# Altium schematic symbol library Schlib_Texas_Instruments.SchLib: 17 symbols
Pins are listed as number, name and electrical type; pins without a type are passive.

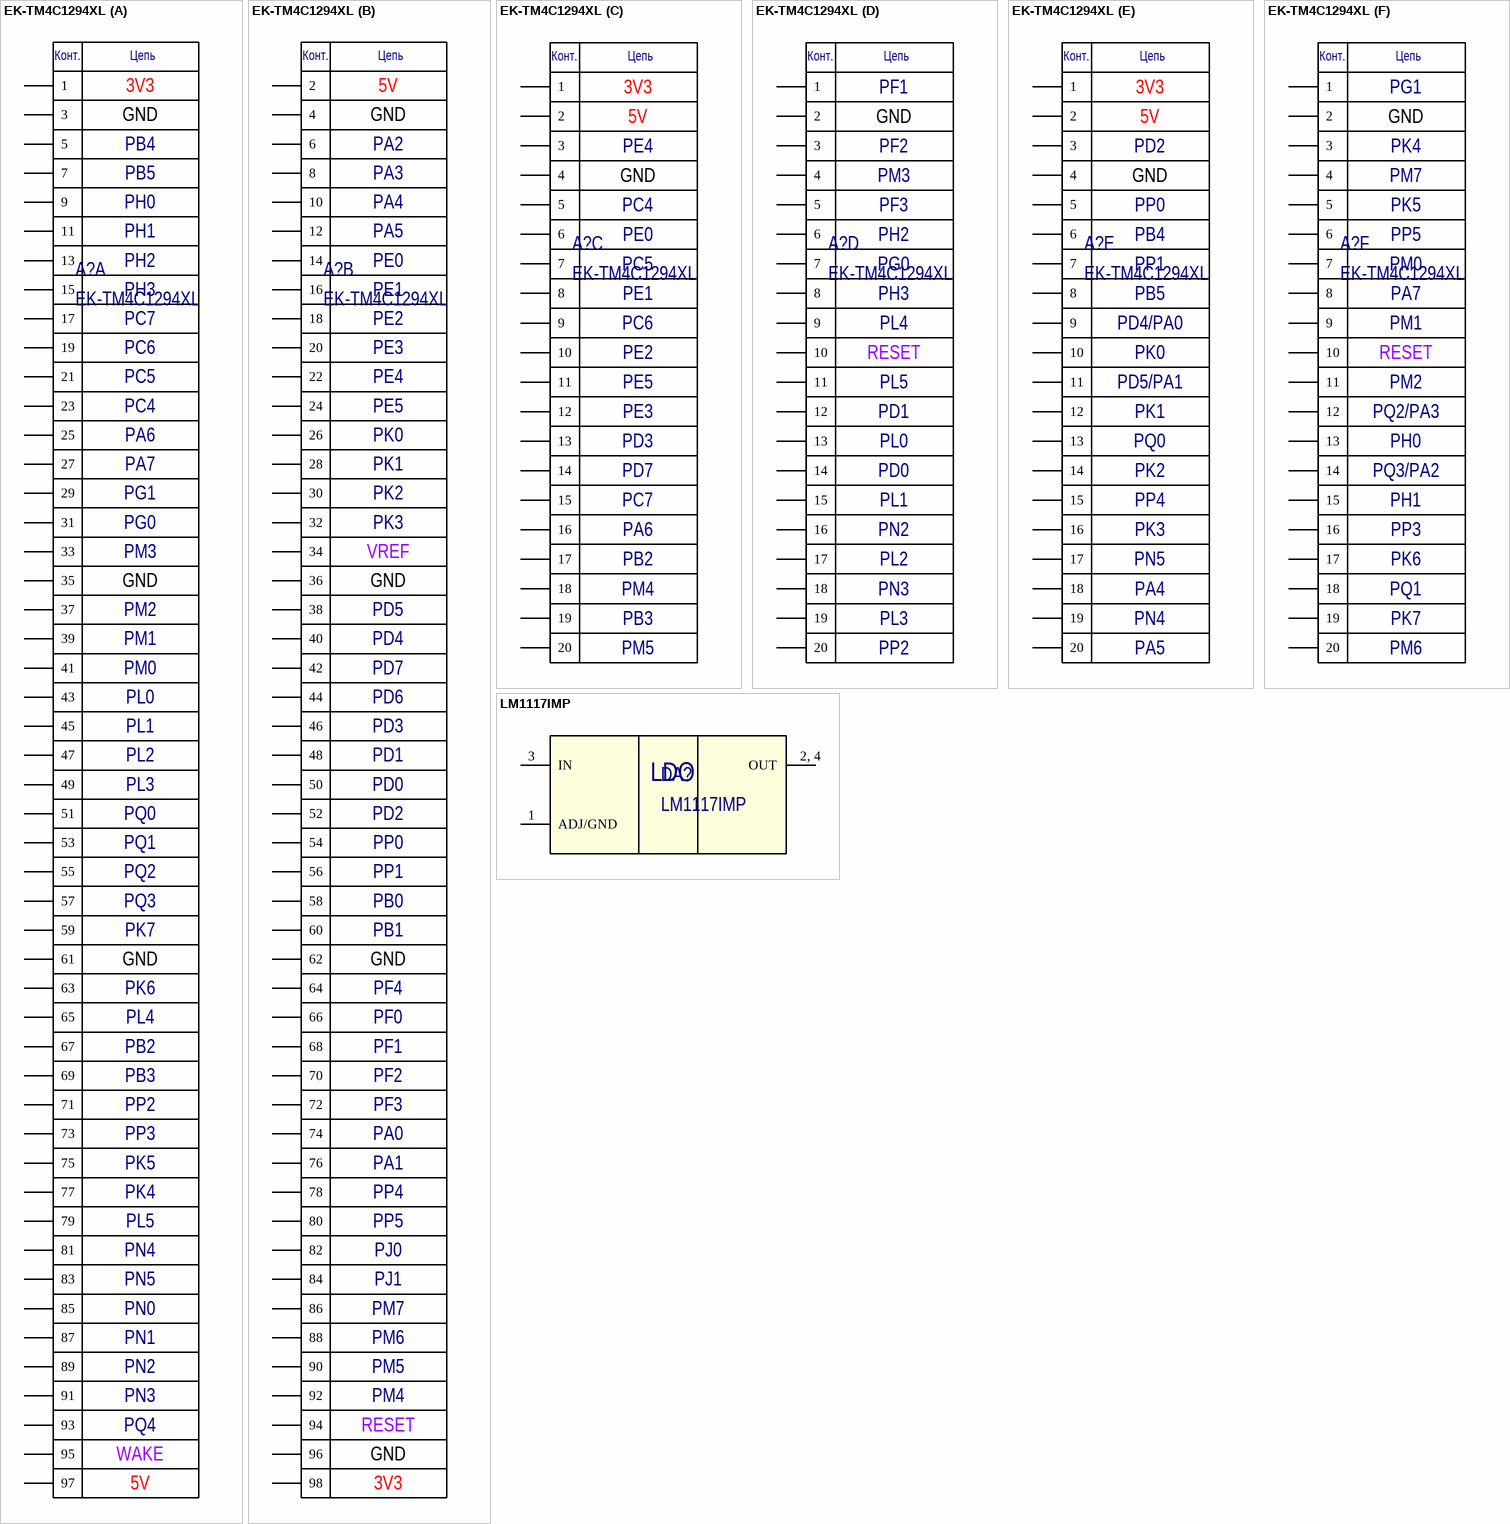
[diagram p0: symbols EK-TM4C1294XL to LM1117IMP]

## EK-TM4C1294XL
designator A?
Tiva™ C Series TM4C1294 Connected LaunchPad Evaluation Kit; Manufacturer: Texas Instruments; Part Number: EK-TM4C1294XL
part A pins: 1 (power), 3 (power), 5, 7, 9, 11, 13, 15, 17, 19, 21, 23, 25, 27, 29, 31, 33, 35 (power), 37, 39, 41, 43, 45, 47, 49, 51, 53, 55, 57, 59, 61 (power), 63, 65, 67, 69, 71, 73, 75, 77, 79, 81, 83, 85, 87, 89, 91, 93, 95, 97 (power)
part B pins: 2 (power), 4 (power), 6, 8, 10, 12, 14, 16, 18, 20, 22, 24, 26, 28, 30, 32, 34, 36 (power), 38, 40, 42, 44, 46, 48, 50, 52, 54, 56, 58, 60, 62 (power), 64, 66, 68, 70, 72, 74, 76, 78, 80, 82, 84, 86, 88, 90, 92, 94, 96 (power), 98 (power)
part C pins: 1 (power), 2 (power), 3, 4 (power), 5, 6, 7, 8, 9, 10, 11, 12, 13, 14, 15, 16, 17, 18, 19, 20
part D pins: 1, 2 (power), 3, 4, 5, 6, 7, 8, 9, 10, 11, 12, 13, 14, 15, 16, 17, 18, 19, 20
part E pins: 1 (power), 2 (power), 3, 4 (power), 5, 6, 7, 8, 9, 10, 11, 12, 13, 14, 15, 16, 17, 18, 19, 20
part F pins: 1, 2, 3, 4, 5, 6, 7, 8, 9, 10, 11, 12, 13, 14, 15, 16, 17, 18, 19, 20
part A text: Конт.; Цепь; 3V3; GND; PB4; PB5; PH0; PH1; PH2; PH3; PC7; PC6; PC5; PC4; PA6; PA7; PG1; PG0; PM3; PM2; PM1; PM0; PL0; PL1; PL2; PL3; PQ0; PQ1; PQ2; PQ3; PK7; PK6; PL4; PB2; PB3; PP2; PP3; PK5; PK4; PL5; PN4; PN5; PN0; PN1; PN2; PN3; PQ4; WAKE; 5V
part B text: Конт.; Цепь; 5V; GND; PA2; PA3; PA4; PA5; PE0; PE1; PE2; PE3; PE4; PE5; PK0; PK1; PK2; PK3; VREF; PD5; PD4; PD7; PD6; PD3; PD1; PD0; PD2; PP0; PP1; PB0; PB1; PF4; PF0; PF1; PF2; PF3; PA0; PA1; PP4; PP5; PJ0; PJ1; PM7; PM6; PM5; PM4; RESET; 3V3
part C text: Конт.; Цепь; 3V3; 5V; PE4; GND; PC4; PE0; PC5; PE1; PC6; PE2; PE5; PE3; PD3; PD7; PC7; PA6; PB2; PM4; PB3; PM5
part D text: Конт.; Цепь; PF1; GND; PF2; PM3; PF3; PH2; PG0; PH3; PL4; RESET; PL5; PD1; PL0; PD0; PL1; PN2; PL2; PN3; PL3; PP2
part E text: Конт.; Цепь; 3V3; 5V; PD2; GND; PP0; PB4; PP1; PB5; PD4/PA0; PK0; PD5/PA1; PK1; PQ0; PK2; PP4; PK3; PN5; PA4; PN4; PA5
part F text: Конт.; Цепь; PG1; GND; PK4; PM7; PK5; PP5; PM0; PA7; PM1; RESET; PM2; PQ2/PA3; PH0; PQ3/PA2; PH1; PP3; PK6; PQ1; PK7; PM6

## LM1117IMP
designator DA?
LDO; Manufacturer: Texas Instruments; Part Number: LM1117IMP
footprint SOT223-4 (SOT223, 4-Leads, Body 6.50x7.00mm (avg), Pitch 2.30mm, IPC Medium Density)
pins: 1 ADJ/GND (power), 2, 4 OUT (power), 3 IN (power)

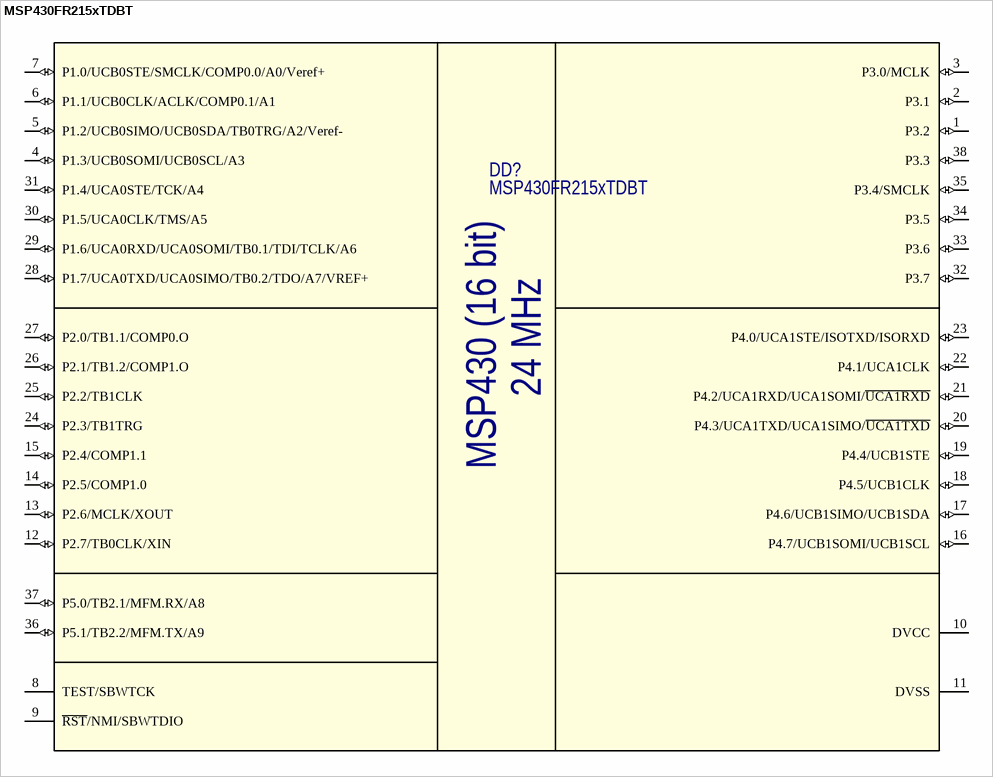
[diagram p1: symbol MSP430FR215xTDBT]

## MSP430FR215xTDBT
designator DD?
MCU 16-bit RISC architecture; Manufacturer: Texas Instruments; Part Number: MSP430FR215xTDBT
footprint TSSOP-38 (TSSOP, 38-Leads, Pitch 0.5mm, IPC Medium Density)
pins: 1 P3.2 (io), 2 P3.1 (io), 3 P3.0/MCLK (io), 4 P1.3/UCB0SOMI/UCB0SCL/A3 (io), 5 P1.2/UCB0SIMO/UCB0SDA/TB0TRG/A2/Veref- (io), 6 P1.1/UCB0CLK/ACLK/COMP0.1/A1 (io), 7 P1.0/UCB0STE/SMCLK/COMP0.0/A0/Veref+ (io), 8 TEST/SBWTCK, 9 ~{RST}/NMI/SBWTDIO, 10 DVCC (power), 11 DVSS (power), 12 P2.7/TB0CLK/XIN (io), 13 P2.6/MCLK/XOUT (io), 14 P2.5/COMP1.0 (io), 15 P2.4/COMP1.1 (io), 16 P4.7/UCB1SOMI/UCB1SCL (io), 17 P4.6/UCB1SIMO/UCB1SDA (io), 18 P4.5/UCB1CLK (io), 19 P4.4/UCB1STE (io), 20 P4.3/UCA1TXD/UCA1SIMO/~{UCA1TXD} (io), 21 P4.2/UCA1RXD/UCA1SOMI/~{UCA1RXD} (io), 22 P4.1/UCA1CLK (io), 23 P4.0/UCA1STE/ISOTXD/ISORXD (io), 24 P2.3/TB1TRG (io), 25 P2.2/TB1CLK (io), 26 P2.1/TB1.2/COMP1.O (io), 27 P2.0/TB1.1/COMP0.O (io), 28 P1.7/UCA0TXD/UCA0SIMO/TB0.2/TDO/A7/VREF+ (io), 29 P1.6/UCA0RXD/UCA0SOMI/TB0.1/TDI/TCLK/A6 (io), 30 P1.5/UCA0CLK/TMS/A5 (io), 31 P1.4/UCA0STE/TCK/A4 (io), 32 P3.7 (io), 33 P3.6 (io), 34 P3.5 (io), 35 P3.4/SMCLK (io), 36 P5.1/TB2.2/MFM.TX/A9 (io), 37 P5.0/TB2.1/MFM.RX/A8 (io), 38 P3.3 (io)
text: 24 MHz; MSP430 (16 bit)

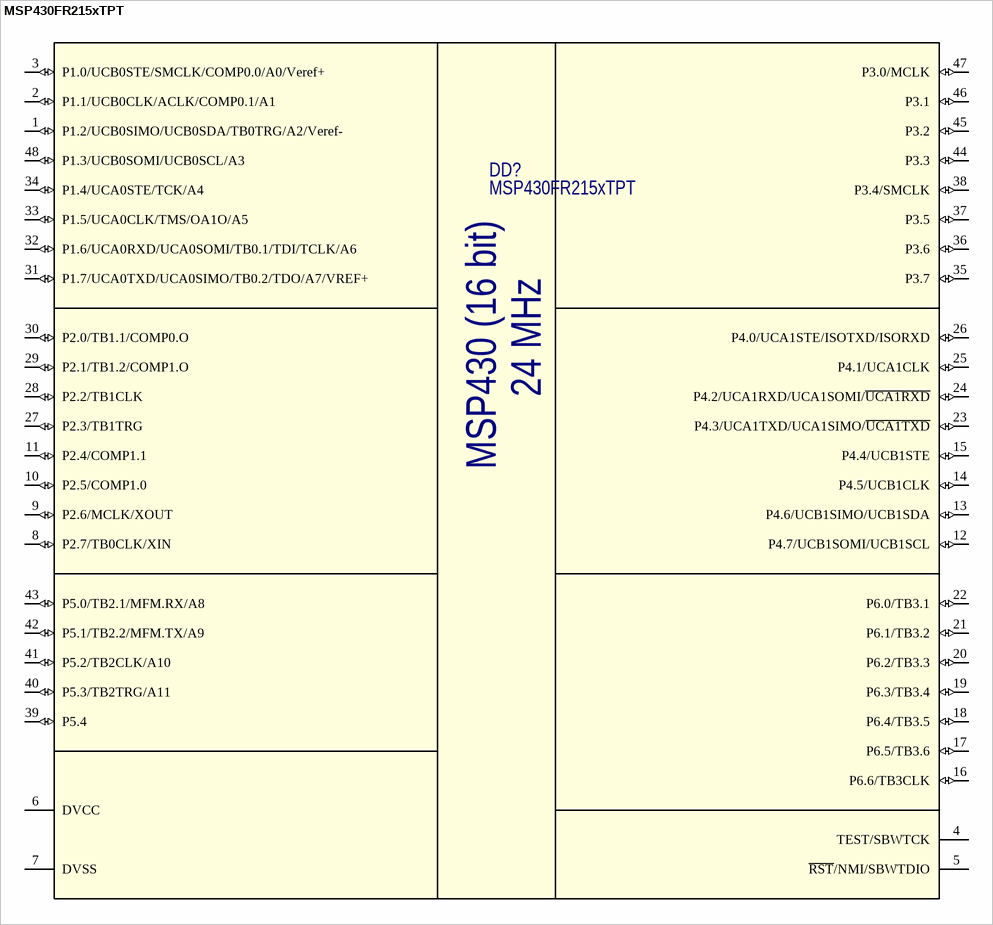
[diagram p2: symbol MSP430FR215xTPT]

## MSP430FR215xTPT
designator DD?
MCU 16-bit RISC architecture; Manufacturer: Texas Instruments; Part Number: MSP430FR215xTPT
footprint LQFP-48 (TSQFP, 48-Leads, Body 7,00x7,00mm, Pitch 0,50mm, IPC Medium Density)
pins: 1 P1.2/UCB0SIMO/UCB0SDA/TB0TRG/A2/Veref- (io), 2 P1.1/UCB0CLK/ACLK/COMP0.1/A1 (io), 3 P1.0/UCB0STE/SMCLK/COMP0.0/A0/Veref+ (io), 4 TEST/SBWTCK, 5 ~{RST}/NMI/SBWTDIO, 6 DVCC (power), 7 DVSS (power), 8 P2.7/TB0CLK/XIN (io), 9 P2.6/MCLK/XOUT (io), 10 P2.5/COMP1.0 (io), 11 P2.4/COMP1.1 (io), 12 P4.7/UCB1SOMI/UCB1SCL (io), 13 P4.6/UCB1SIMO/UCB1SDA (io), 14 P4.5/UCB1CLK (io), 15 P4.4/UCB1STE (io), 16 P6.6/TB3CLK (io), 17 P6.5/TB3.6 (io), 18 P6.4/TB3.5 (io), 19 P6.3/TB3.4 (io), 20 P6.2/TB3.3 (io), 21 P6.1/TB3.2 (io), 22 P6.0/TB3.1 (io), 23 P4.3/UCA1TXD/UCA1SIMO/~{UCA1TXD} (io), 24 P4.2/UCA1RXD/UCA1SOMI/~{UCA1RXD} (io), 25 P4.1/UCA1CLK (io), 26 P4.0/UCA1STE/ISOTXD/ISORXD (io), 27 P2.3/TB1TRG (io), 28 P2.2/TB1CLK (io), 29 P2.1/TB1.2/COMP1.O (io), 30 P2.0/TB1.1/COMP0.O (io), 31 P1.7/UCA0TXD/UCA0SIMO/TB0.2/TDO/A7/VREF+ (io), 32 P1.6/UCA0RXD/UCA0SOMI/TB0.1/TDI/TCLK/A6 (io), 33 P1.5/UCA0CLK/TMS/OA1O/A5 (io), 34 P1.4/UCA0STE/TCK/A4 (io), 35 P3.7 (io), 36 P3.6 (io), 37 P3.5 (io), 38 P3.4/SMCLK (io), 39 P5.4 (io), 40 P5.3/TB2TRG/A11 (io), 41 P5.2/TB2CLK/A10 (io), 42 P5.1/TB2.2/MFM.TX/A9 (io), 43 P5.0/TB2.1/MFM.RX/A8 (io), 44 P3.3 (io), 45 P3.2 (io), 46 P3.1 (io), 47 P3.0/MCLK (io), 48 P1.3/UCB0SOMI/UCB0SCL/A3 (io)
text: 24 MHz; MSP430 (16 bit)

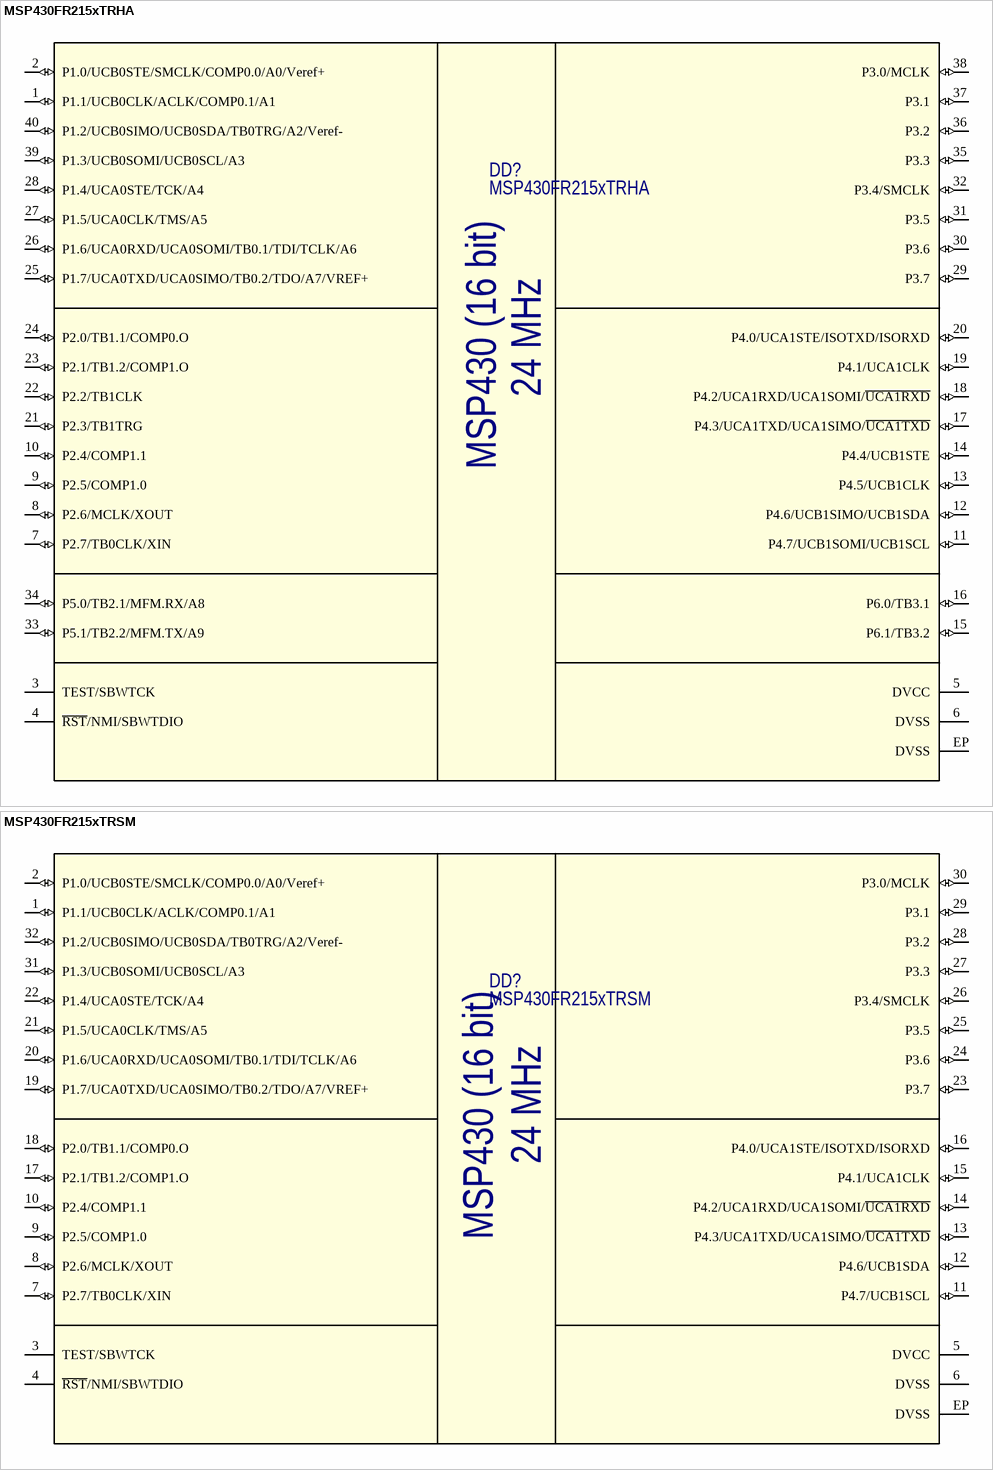
[diagram p3: symbols MSP430FR215xTRHA to MSP430FR215xTRSM]

## MSP430FR215xTRHA
designator DD?
MCU 16-bit RISC architecture; Manufacturer: Texas Instruments; Part Number: MSP430FR215xTRHA
footprint PVQFN40
pins: 1 P1.1/UCB0CLK/ACLK/COMP0.1/A1 (io), 2 P1.0/UCB0STE/SMCLK/COMP0.0/A0/Veref+ (io), 3 TEST/SBWTCK, 4 ~{RST}/NMI/SBWTDIO, 5 DVCC (power), 6 DVSS (power), 7 P2.7/TB0CLK/XIN (io), 8 P2.6/MCLK/XOUT (io), 9 P2.5/COMP1.0 (io), 10 P2.4/COMP1.1 (io), 11 P4.7/UCB1SOMI/UCB1SCL (io), 12 P4.6/UCB1SIMO/UCB1SDA (io), 13 P4.5/UCB1CLK (io), 14 P4.4/UCB1STE (io), 15 P6.1/TB3.2 (io), 16 P6.0/TB3.1 (io), 17 P4.3/UCA1TXD/UCA1SIMO/~{UCA1TXD} (io), 18 P4.2/UCA1RXD/UCA1SOMI/~{UCA1RXD} (io), 19 P4.1/UCA1CLK (io), 20 P4.0/UCA1STE/ISOTXD/ISORXD (io), 21 P2.3/TB1TRG (io), 22 P2.2/TB1CLK (io), 23 P2.1/TB1.2/COMP1.O (io), 24 P2.0/TB1.1/COMP0.O (io), 25 P1.7/UCA0TXD/UCA0SIMO/TB0.2/TDO/A7/VREF+ (io), 26 P1.6/UCA0RXD/UCA0SOMI/TB0.1/TDI/TCLK/A6 (io), 27 P1.5/UCA0CLK/TMS/A5 (io), 28 P1.4/UCA0STE/TCK/A4 (io), 29 P3.7 (io), 30 P3.6 (io), 31 P3.5 (io), 32 P3.4/SMCLK (io), 33 P5.1/TB2.2/MFM.TX/A9 (io), 34 P5.0/TB2.1/MFM.RX/A8 (io), 35 P3.3 (io), 36 P3.2 (io), 37 P3.1 (io), 38 P3.0/MCLK (io), 39 P1.3/UCB0SOMI/UCB0SCL/A3 (io), 40 P1.2/UCB0SIMO/UCB0SDA/TB0TRG/A2/Veref- (io), EP DVSS (power)
text: 24 MHz; MSP430 (16 bit)

## MSP430FR215xTRSM
designator DD?
MCU 16-bit RISC architecture; Manufacturer: Texas Instruments; Part Number: MSP430FR215xTRSM
footprint QFN32-0.4 (QFN, 32-Leads, Body 4,00x4,00mm, Pitch 0,40mm, Thermal Pad 2,80x2,80mm, IPC Medium Density)
pins: 1 P1.1/UCB0CLK/ACLK/COMP0.1/A1 (io), 2 P1.0/UCB0STE/SMCLK/COMP0.0/A0/Veref+ (io), 3 TEST/SBWTCK, 4 ~{RST}/NMI/SBWTDIO, 5 DVCC (power), 6 DVSS (power), 7 P2.7/TB0CLK/XIN (io), 8 P2.6/MCLK/XOUT (io), 9 P2.5/COMP1.0 (io), 10 P2.4/COMP1.1 (io), 11 P4.7/UCB1SCL (io), 12 P4.6/UCB1SDA (io), 13 P4.3/UCA1TXD/UCA1SIMO/~{UCA1TXD} (io), 14 P4.2/UCA1RXD/UCA1SOMI/~{UCA1RXD} (io), 15 P4.1/UCA1CLK (io), 16 P4.0/UCA1STE/ISOTXD/ISORXD (io), 17 P2.1/TB1.2/COMP1.O (io), 18 P2.0/TB1.1/COMP0.O (io), 19 P1.7/UCA0TXD/UCA0SIMO/TB0.2/TDO/A7/VREF+ (io), 20 P1.6/UCA0RXD/UCA0SOMI/TB0.1/TDI/TCLK/A6 (io), 21 P1.5/UCA0CLK/TMS/A5 (io), 22 P1.4/UCA0STE/TCK/A4 (io), 23 P3.7 (io), 24 P3.6 (io), 25 P3.5 (io), 26 P3.4/SMCLK (io), 27 P3.3 (io), 28 P3.2 (io), 29 P3.1 (io), 30 P3.0/MCLK (io), 31 P1.3/UCB0SOMI/UCB0SCL/A3 (io), 32 P1.2/UCB0SIMO/UCB0SDA/TB0TRG/A2/Veref- (io), EP DVSS (power)
text: 24 MHz; MSP430 (16 bit)

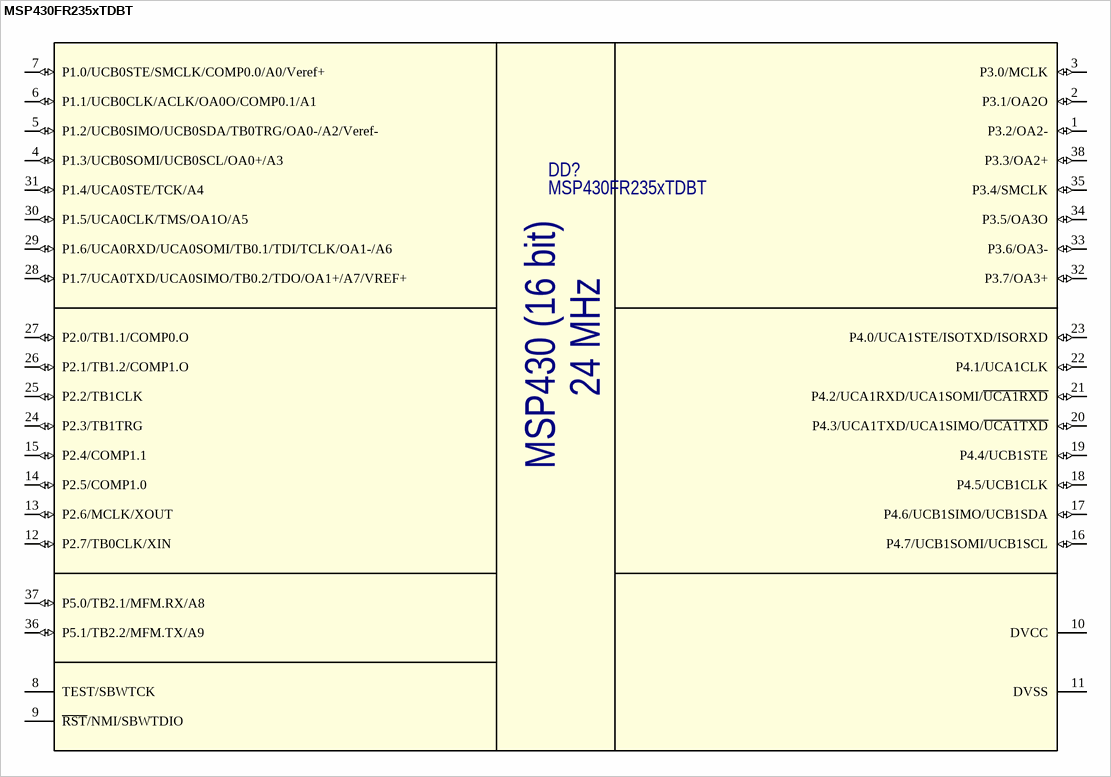
[diagram p4: symbol MSP430FR235xTDBT]

## MSP430FR235xTDBT
designator DD?
MCU 16-bit RISC architecture; Manufacturer: Texas Instruments; Part Number: MSP430FR235xTDBT
footprint TSSOP-38 (TSSOP, 38-Leads, Pitch 0.5mm, IPC Medium Density)
pins: 1 P3.2/OA2- (io), 2 P3.1/OA2O (io), 3 P3.0/MCLK (io), 4 P1.3/UCB0SOMI/UCB0SCL/OA0+/A3 (io), 5 P1.2/UCB0SIMO/UCB0SDA/TB0TRG/OA0-/A2/Veref- (io), 6 P1.1/UCB0CLK/ACLK/OA0O/COMP0.1/A1 (io), 7 P1.0/UCB0STE/SMCLK/COMP0.0/A0/Veref+ (io), 8 TEST/SBWTCK, 9 ~{RST}/NMI/SBWTDIO, 10 DVCC (power), 11 DVSS (power), 12 P2.7/TB0CLK/XIN (io), 13 P2.6/MCLK/XOUT (io), 14 P2.5/COMP1.0 (io), 15 P2.4/COMP1.1 (io), 16 P4.7/UCB1SOMI/UCB1SCL (io), 17 P4.6/UCB1SIMO/UCB1SDA (io), 18 P4.5/UCB1CLK (io), 19 P4.4/UCB1STE (io), 20 P4.3/UCA1TXD/UCA1SIMO/~{UCA1TXD} (io), 21 P4.2/UCA1RXD/UCA1SOMI/~{UCA1RXD} (io), 22 P4.1/UCA1CLK (io), 23 P4.0/UCA1STE/ISOTXD/ISORXD (io), 24 P2.3/TB1TRG (io), 25 P2.2/TB1CLK (io), 26 P2.1/TB1.2/COMP1.O (io), 27 P2.0/TB1.1/COMP0.O (io), 28 P1.7/UCA0TXD/UCA0SIMO/TB0.2/TDO/OA1+/A7/VREF+ (io), 29 P1.6/UCA0RXD/UCA0SOMI/TB0.1/TDI/TCLK/OA1-/A6 (io), 30 P1.5/UCA0CLK/TMS/OA1O/A5 (io), 31 P1.4/UCA0STE/TCK/A4 (io), 32 P3.7/OA3+ (io), 33 P3.6/OA3- (io), 34 P3.5/OA3O (io), 35 P3.4/SMCLK (io), 36 P5.1/TB2.2/MFM.TX/A9 (io), 37 P5.0/TB2.1/MFM.RX/A8 (io), 38 P3.3/OA2+ (io)
text: 24 MHz; MSP430 (16 bit)

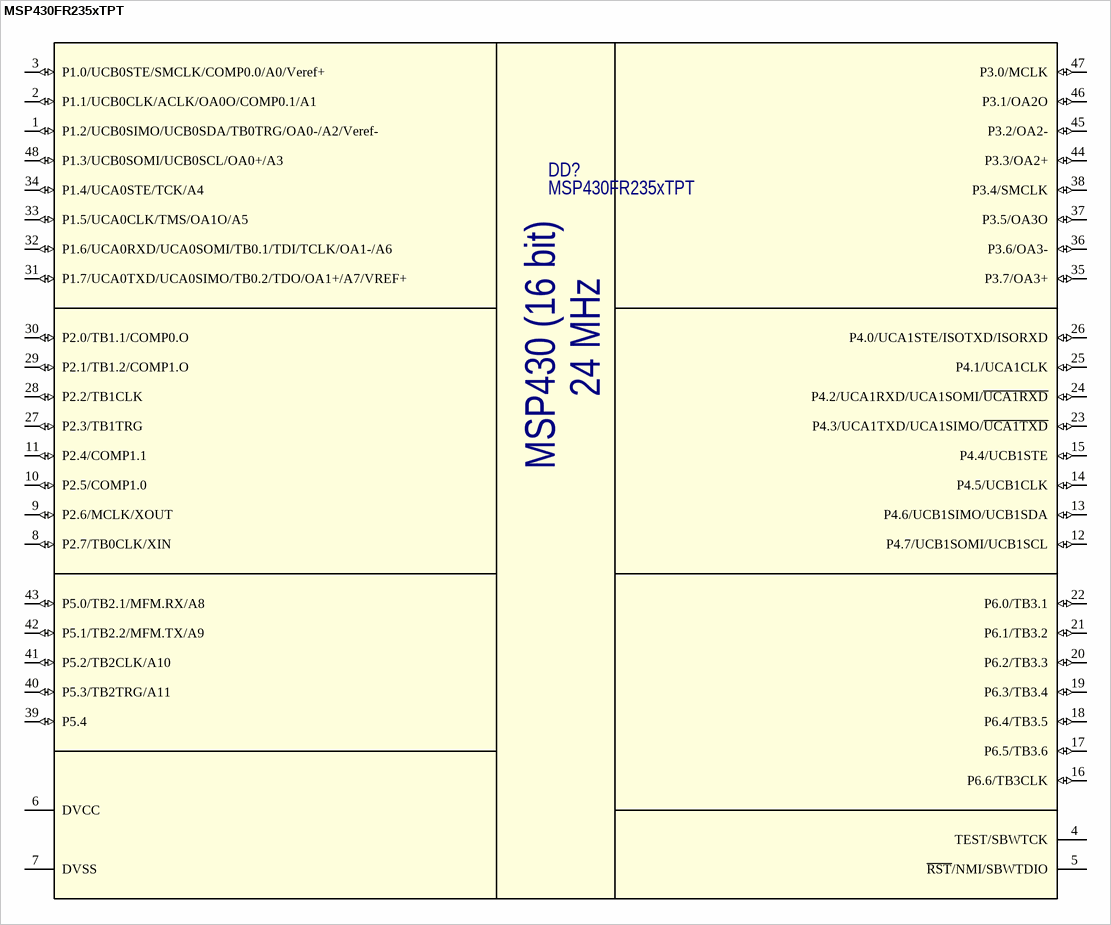
[diagram p5: symbol MSP430FR235xTPT]

## MSP430FR235xTPT
designator DD?
MCU 16-bit RISC architecture; Manufacturer: Texas Instruments; Part Number: MSP430FR235xTPT
footprint LQFP-48 (TSQFP, 48-Leads, Body 7,00x7,00mm, Pitch 0,50mm, IPC Medium Density)
pins: 1 P1.2/UCB0SIMO/UCB0SDA/TB0TRG/OA0-/A2/Veref- (io), 2 P1.1/UCB0CLK/ACLK/OA0O/COMP0.1/A1 (io), 3 P1.0/UCB0STE/SMCLK/COMP0.0/A0/Veref+ (io), 4 TEST/SBWTCK, 5 ~{RST}/NMI/SBWTDIO, 6 DVCC (power), 7 DVSS (power), 8 P2.7/TB0CLK/XIN (io), 9 P2.6/MCLK/XOUT (io), 10 P2.5/COMP1.0 (io), 11 P2.4/COMP1.1 (io), 12 P4.7/UCB1SOMI/UCB1SCL (io), 13 P4.6/UCB1SIMO/UCB1SDA (io), 14 P4.5/UCB1CLK (io), 15 P4.4/UCB1STE (io), 16 P6.6/TB3CLK (io), 17 P6.5/TB3.6 (io), 18 P6.4/TB3.5 (io), 19 P6.3/TB3.4 (io), 20 P6.2/TB3.3 (io), 21 P6.1/TB3.2 (io), 22 P6.0/TB3.1 (io), 23 P4.3/UCA1TXD/UCA1SIMO/~{UCA1TXD} (io), 24 P4.2/UCA1RXD/UCA1SOMI/~{UCA1RXD} (io), 25 P4.1/UCA1CLK (io), 26 P4.0/UCA1STE/ISOTXD/ISORXD (io), 27 P2.3/TB1TRG (io), 28 P2.2/TB1CLK (io), 29 P2.1/TB1.2/COMP1.O (io), 30 P2.0/TB1.1/COMP0.O (io), 31 P1.7/UCA0TXD/UCA0SIMO/TB0.2/TDO/OA1+/A7/VREF+ (io), 32 P1.6/UCA0RXD/UCA0SOMI/TB0.1/TDI/TCLK/OA1-/A6 (io), 33 P1.5/UCA0CLK/TMS/OA1O/A5 (io), 34 P1.4/UCA0STE/TCK/A4 (io), 35 P3.7/OA3+ (io), 36 P3.6/OA3- (io), 37 P3.5/OA3O (io), 38 P3.4/SMCLK (io), 39 P5.4 (io), 40 P5.3/TB2TRG/A11 (io), 41 P5.2/TB2CLK/A10 (io), 42 P5.1/TB2.2/MFM.TX/A9 (io), 43 P5.0/TB2.1/MFM.RX/A8 (io), 44 P3.3/OA2+ (io), 45 P3.2/OA2- (io), 46 P3.1/OA2O (io), 47 P3.0/MCLK (io), 48 P1.3/UCB0SOMI/UCB0SCL/OA0+/A3 (io)
text: 24 MHz; MSP430 (16 bit)

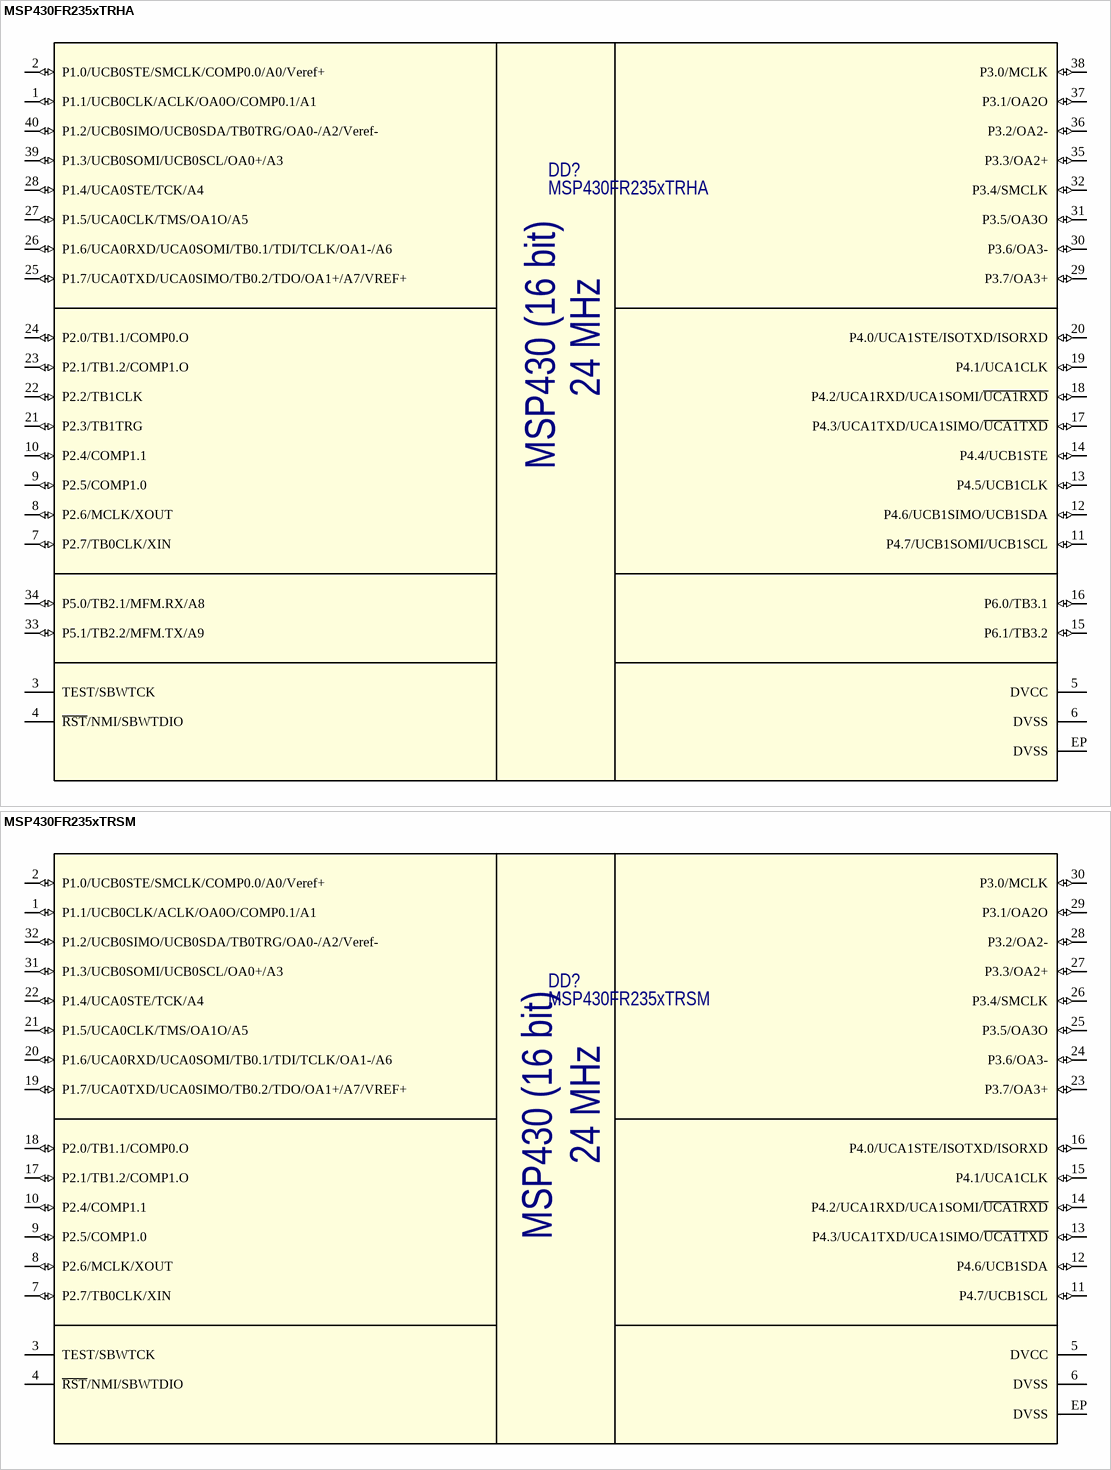
[diagram p6: symbols MSP430FR235xTRHA to MSP430FR235xTRSM]

## MSP430FR235xTRHA
designator DD?
MCU 16-bit RISC architecture; Manufacturer: Texas Instruments; Part Number: MSP430FR235xTRHA
footprint PVQFN40
pins: 1 P1.1/UCB0CLK/ACLK/OA0O/COMP0.1/A1 (io), 2 P1.0/UCB0STE/SMCLK/COMP0.0/A0/Veref+ (io), 3 TEST/SBWTCK, 4 ~{RST}/NMI/SBWTDIO, 5 DVCC (power), 6 DVSS (power), 7 P2.7/TB0CLK/XIN (io), 8 P2.6/MCLK/XOUT (io), 9 P2.5/COMP1.0 (io), 10 P2.4/COMP1.1 (io), 11 P4.7/UCB1SOMI/UCB1SCL (io), 12 P4.6/UCB1SIMO/UCB1SDA (io), 13 P4.5/UCB1CLK (io), 14 P4.4/UCB1STE (io), 15 P6.1/TB3.2 (io), 16 P6.0/TB3.1 (io), 17 P4.3/UCA1TXD/UCA1SIMO/~{UCA1TXD} (io), 18 P4.2/UCA1RXD/UCA1SOMI/~{UCA1RXD} (io), 19 P4.1/UCA1CLK (io), 20 P4.0/UCA1STE/ISOTXD/ISORXD (io), 21 P2.3/TB1TRG (io), 22 P2.2/TB1CLK (io), 23 P2.1/TB1.2/COMP1.O (io), 24 P2.0/TB1.1/COMP0.O (io), 25 P1.7/UCA0TXD/UCA0SIMO/TB0.2/TDO/OA1+/A7/VREF+ (io), 26 P1.6/UCA0RXD/UCA0SOMI/TB0.1/TDI/TCLK/OA1-/A6 (io), 27 P1.5/UCA0CLK/TMS/OA1O/A5 (io), 28 P1.4/UCA0STE/TCK/A4 (io), 29 P3.7/OA3+ (io), 30 P3.6/OA3- (io), 31 P3.5/OA3O (io), 32 P3.4/SMCLK (io), 33 P5.1/TB2.2/MFM.TX/A9 (io), 34 P5.0/TB2.1/MFM.RX/A8 (io), 35 P3.3/OA2+ (io), 36 P3.2/OA2- (io), 37 P3.1/OA2O (io), 38 P3.0/MCLK (io), 39 P1.3/UCB0SOMI/UCB0SCL/OA0+/A3 (io), 40 P1.2/UCB0SIMO/UCB0SDA/TB0TRG/OA0-/A2/Veref- (io), EP DVSS (power)
text: 24 MHz; MSP430 (16 bit)

## MSP430FR235xTRSM
designator DD?
MCU 16-bit RISC architecture; Manufacturer: Texas Instruments; Part Number: MSP430FR235xTRSM
footprint QFN32-0.4 (QFN, 32-Leads, Body 4,00x4,00mm, Pitch 0,40mm, Thermal Pad 2,80x2,80mm, IPC Medium Density)
pins: 1 P1.1/UCB0CLK/ACLK/OA0O/COMP0.1/A1 (io), 2 P1.0/UCB0STE/SMCLK/COMP0.0/A0/Veref+ (io), 3 TEST/SBWTCK, 4 ~{RST}/NMI/SBWTDIO, 5 DVCC (power), 6 DVSS (power), 7 P2.7/TB0CLK/XIN (io), 8 P2.6/MCLK/XOUT (io), 9 P2.5/COMP1.0 (io), 10 P2.4/COMP1.1 (io), 11 P4.7/UCB1SCL (io), 12 P4.6/UCB1SDA (io), 13 P4.3/UCA1TXD/UCA1SIMO/~{UCA1TXD} (io), 14 P4.2/UCA1RXD/UCA1SOMI/~{UCA1RXD} (io), 15 P4.1/UCA1CLK (io), 16 P4.0/UCA1STE/ISOTXD/ISORXD (io), 17 P2.1/TB1.2/COMP1.O (io), 18 P2.0/TB1.1/COMP0.O (io), 19 P1.7/UCA0TXD/UCA0SIMO/TB0.2/TDO/OA1+/A7/VREF+ (io), 20 P1.6/UCA0RXD/UCA0SOMI/TB0.1/TDI/TCLK/OA1-/A6 (io), 21 P1.5/UCA0CLK/TMS/OA1O/A5 (io), 22 P1.4/UCA0STE/TCK/A4 (io), 23 P3.7/OA3+ (io), 24 P3.6/OA3- (io), 25 P3.5/OA3O (io), 26 P3.4/SMCLK (io), 27 P3.3/OA2+ (io), 28 P3.2/OA2- (io), 29 P3.1/OA2O (io), 30 P3.0/MCLK (io), 31 P1.3/UCB0SOMI/UCB0SCL/OA0+/A3 (io), 32 P1.2/UCB0SIMO/UCB0SDA/TB0TRG/OA0-/A2/Veref- (io), EP DVSS (power)
text: 24 MHz; MSP430 (16 bit)

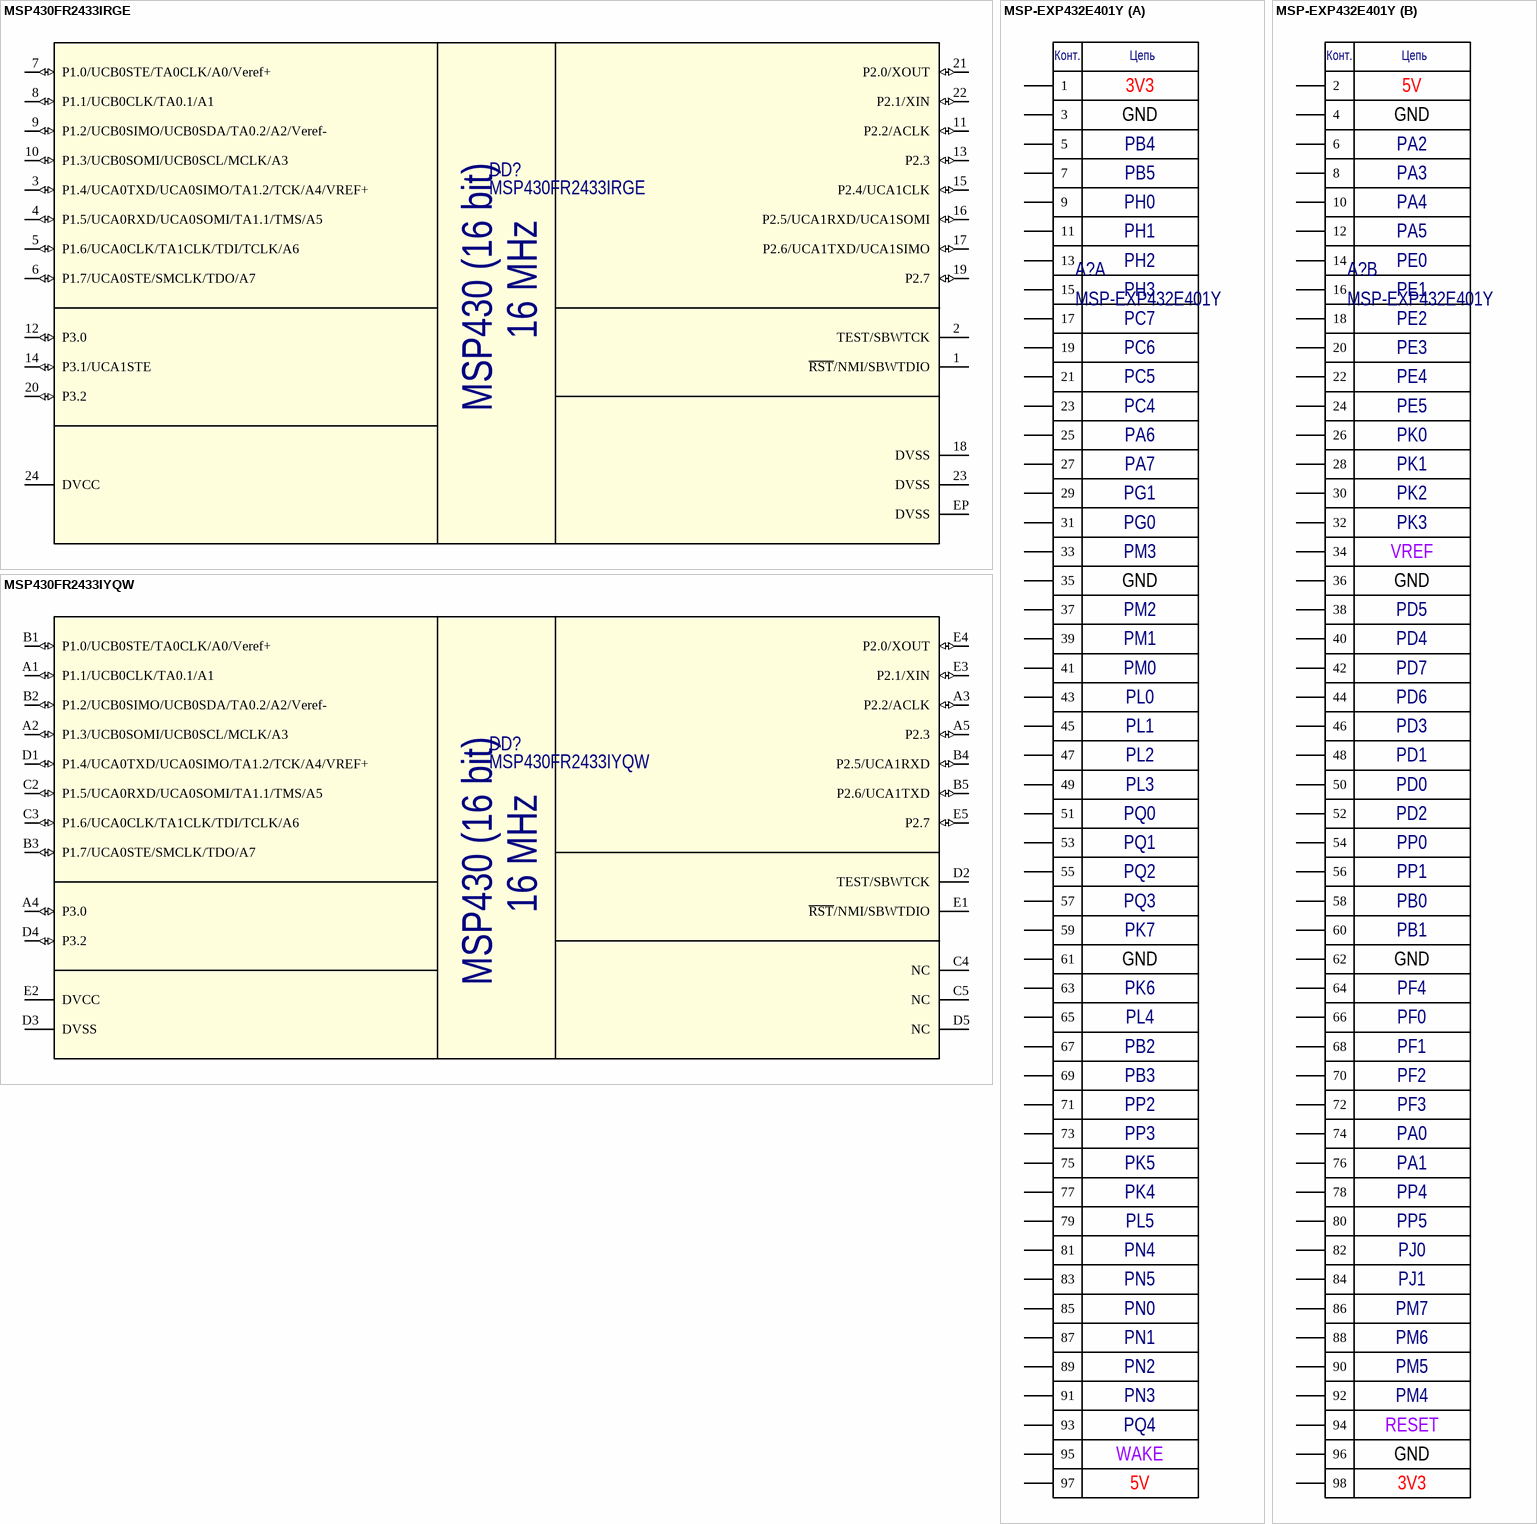
[diagram p7: symbols MSP430FR2433IRGE to MSP-EXP432E401Y]

## MSP430FR2433IRGE
designator DD?
MCU 16-bit RISC architecture; Manufacturer: Texas Instruments; Part Number: MSP430FR2433IRGE
footprint QFN24 (QFN, 24-Leads, Body 4.00x4.00mm, Pitch 0.50mm, Thermal Pad 2.50x2.50mm, IPC Medium Density)
pins: 1 ~{RST}/NMI/SBWTDIO, 2 TEST/SBWTCK, 3 P1.4/UCA0TXD/UCA0SIMO/TA1.2/TCK/A4/VREF+ (io), 4 P1.5/UCA0RXD/UCA0SOMI/TA1.1/TMS/A5 (io), 5 P1.6/UCA0CLK/TA1CLK/TDI/TCLK/A6 (io), 6 P1.7/UCA0STE/SMCLK/TDO/A7 (io), 7 P1.0/UCB0STE/TA0CLK/A0/Veref+ (io), 8 P1.1/UCB0CLK/TA0.1/A1 (io), 9 P1.2/UCB0SIMO/UCB0SDA/TA0.2/A2/Veref- (io), 10 P1.3/UCB0SOMI/UCB0SCL/MCLK/A3 (io), 11 P2.2/ACLK (io), 12 P3.0 (io), 13 P2.3 (io), 14 P3.1/UCA1STE (io), 15 P2.4/UCA1CLK (io), 16 P2.5/UCA1RXD/UCA1SOMI (io), 17 P2.6/UCA1TXD/UCA1SIMO (io), 18 DVSS (power), 19 P2.7 (io), 20 P3.2 (io), 21 P2.0/XOUT (io), 22 P2.1/XIN (io), 23 DVSS (power), 24 DVCC (power), EP DVSS (power)
text: 16 MHz; MSP430 (16 bit)

## MSP430FR2433IYQW
designator DD?
MCU 16-bit RISC architecture; Manufacturer: Texas Instruments; Part Number: MSP430FR2433IYQW
pins: A1 P1.1/UCB0CLK/TA0.1/A1 (io), A2 P1.3/UCB0SOMI/UCB0SCL/MCLK/A3 (io), A3 P2.2/ACLK (io), A4 P3.0 (io), A5 P2.3 (io), B1 P1.0/UCB0STE/TA0CLK/A0/Veref+ (io), B2 P1.2/UCB0SIMO/UCB0SDA/TA0.2/A2/Veref- (io), B3 P1.7/UCA0STE/SMCLK/TDO/A7 (io), B4 P2.5/UCA1RXD (io), B5 P2.6/UCA1TXD (io), C2 P1.5/UCA0RXD/UCA0SOMI/TA1.1/TMS/A5 (io), C3 P1.6/UCA0CLK/TA1CLK/TDI/TCLK/A6 (io), C4 NC, C5 NC, D1 P1.4/UCA0TXD/UCA0SIMO/TA1.2/TCK/A4/VREF+ (io), D2 TEST/SBWTCK, D3 DVSS (power), D4 P3.2 (io), D5 NC, E1 ~{RST}/NMI/SBWTDIO, E2 DVCC (power), E3 P2.1/XIN (io), E4 P2.0/XOUT (io), E5 P2.7 (io)
text: 16 MHz; MSP430 (16 bit)

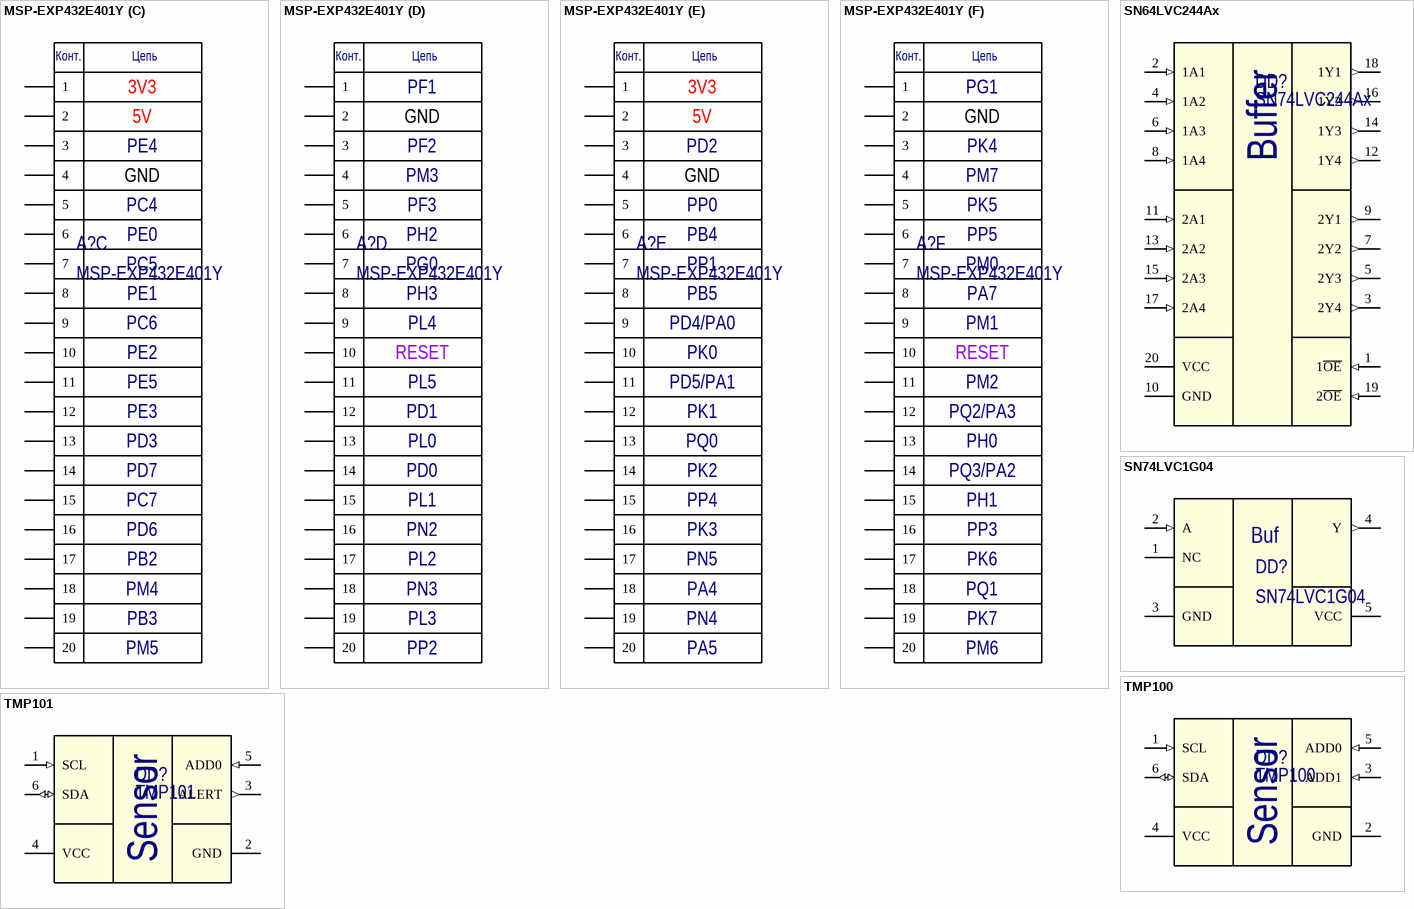
[diagram p8: symbols MSP-EXP432E401Y to TMP101]

## MSP-EXP432E401Y
designator A?
SimpleLink™ Ethernet MSP432E401Y Microcontroller LaunchPad™ Development Kit; Manufacturer: Texas Instruments; Part Number: MSP-EXP432E401Y
part A pins: 1 (power), 3 (power), 5, 7, 9, 11, 13, 15, 17, 19, 21, 23, 25, 27, 29, 31, 33, 35 (power), 37, 39, 41, 43, 45, 47, 49, 51, 53, 55, 57, 59, 61 (power), 63, 65, 67, 69, 71, 73, 75, 77, 79, 81, 83, 85, 87, 89, 91, 93, 95, 97 (power)
part B pins: 2 (power), 4 (power), 6, 8, 10, 12, 14, 16, 18, 20, 22, 24, 26, 28, 30, 32, 34, 36 (power), 38, 40, 42, 44, 46, 48, 50, 52, 54, 56, 58, 60, 62 (power), 64, 66, 68, 70, 72, 74, 76, 78, 80, 82, 84, 86, 88, 90, 92, 94, 96 (power), 98 (power)
part C pins: 1 (power), 2 (power), 3, 4 (power), 5, 6, 7, 8, 9, 10, 11, 12, 13, 14, 15, 16, 17, 18, 19, 20
part D pins: 1, 2 (power), 3, 4, 5, 6, 7, 8, 9, 10, 11, 12, 13, 14, 15, 16, 17, 18, 19, 20
part E pins: 1 (power), 2 (power), 3, 4 (power), 5, 6, 7, 8, 9, 10, 11, 12, 13, 14, 15, 16, 17, 18, 19, 20
part F pins: 1, 2, 3, 4, 5, 6, 7, 8, 9, 10, 11, 12, 13, 14, 15, 16, 17, 18, 19, 20
part A text: Конт.; Цепь; 3V3; GND; PB4; PB5; PH0; PH1; PH2; PH3; PC7; PC6; PC5; PC4; PA6; PA7; PG1; PG0; PM3; PM2; PM1; PM0; PL0; PL1; PL2; PL3; PQ0; PQ1; PQ2; PQ3; PK7; PK6; PL4; PB2; PB3; PP2; PP3; PK5; PK4; PL5; PN4; PN5; PN0; PN1; PN2; PN3; PQ4; WAKE; 5V
part B text: Конт.; Цепь; 5V; GND; PA2; PA3; PA4; PA5; PE0; PE1; PE2; PE3; PE4; PE5; PK0; PK1; PK2; PK3; VREF; PD5; PD4; PD7; PD6; PD3; PD1; PD0; PD2; PP0; PP1; PB0; PB1; PF4; PF0; PF1; PF2; PF3; PA0; PA1; PP4; PP5; PJ0; PJ1; PM7; PM6; PM5; PM4; RESET; 3V3
part C text: Конт.; Цепь; 3V3; 5V; PE4; GND; PC4; PE0; PC5; PE1; PC6; PE2; PE5; PE3; PD3; PD7; PC7; PD6; PB2; PM4; PB3; PM5
part D text: Конт.; Цепь; PF1; GND; PF2; PM3; PF3; PH2; PG0; PH3; PL4; RESET; PL5; PD1; PL0; PD0; PL1; PN2; PL2; PN3; PL3; PP2
part E text: Конт.; Цепь; 3V3; 5V; PD2; GND; PP0; PB4; PP1; PB5; PD4/PA0; PK0; PD5/PA1; PK1; PQ0; PK2; PP4; PK3; PN5; PA4; PN4; PA5
part F text: Конт.; Цепь; PG1; GND; PK4; PM7; PK5; PP5; PM0; PA7; PM1; RESET; PM2; PQ2/PA3; PH0; PQ3/PA2; PH1; PP3; PK6; PQ1; PK7; PM6

## SN64LVC244Ax
designator DD?, comment SN74LVC244Ax
Octal Buffer or Driver With 3-State Outputs; Manufacturer: Texas Instruments; Part Number: SN74LVC244Ax
footprint TSSOP-20 (TSOP, 20-Leads, Body 6.50x4.40mm, Pitch 0.65mm, IPC Medium Density)
footprint SSOP-20 (SSOP, 20-Leads, Body 12.80x7.50mm, Pitch 1.27mm, IPC Medium Density)
footprint SOIC-20N (SOIC, 20-Leads, Body 12.80x7.50mm, Pitch 1.27mm, IPC Medium Density)
pins: 1 1~{OE} (in), 2 1A1 (in), 3 2Y4 (out), 4 1A2 (in), 5 2Y3 (out), 6 1A3 (in), 7 2Y2 (out), 8 1A4 (in), 9 2Y1 (out), 10 GND (power), 11 2A1 (in), 12 1Y4 (out), 13 2A2 (in), 14 1Y3 (out), 15 2A3 (in), 16 1Y2 (out), 17 2A4 (in), 18 1Y1 (out), 19 2~{OE} (in), 20 VCC (power)
text: Buffer

## SN74LVC1G04
designator DD?
Single Inverter Gate; Manufacturer: Texas Instruments; Part Number: SN74LVC1G04
footprint SOT23-5 (SOT23, 6-Leads, Body 2.90x2.80mm, Pitch 0.95mm, IPC Medium Density)
footprint SC70-5
pins: 1 NC, 2 A (in), 3 GND (power), 4 Y (out), 5 VCC (power)
text: Buf

## TMP100
designator DD?
Temperature Sensor with I2C and SMBus Interace; Manufacturer: Texas Instruments; Part Number: TMP100
footprint SOT23-6 (SOT23, 6-Leads, Body 2.90x2.80mm, Pitch 0.95mm, IPC Medium Density)
pins: 1 SCL (in), 2 GND (power), 3 ADD1 (in), 4 VCC (power), 5 ADD0 (in), 6 SDA (io)
text: Sensor

## TMP101
designator DD?
Temperature Sensor with I2C and SMBus Interace with Alert Function; Manufacturer: Texas Instruments; Part Number: TMP101
footprint SOT23-6 (SOT23, 6-Leads, Body 2.90x2.80mm, Pitch 0.95mm, IPC Medium Density)
pins: 1 SCL (in), 2 GND (power), 3 ALERT (out), 4 VCC (power), 5 ADD0 (in), 6 SDA (io)
text: Sensor